# EAGLE library part CELLPHONE_ARDUINO_SERIAL_PROGRAM (library v0-cellphone)
FTDI connector footprints
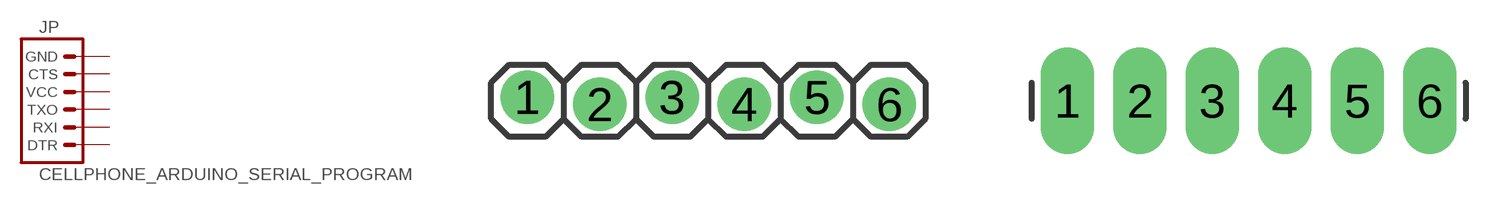
[diagram p5: symbol with the pads of CELLPHONE_1X06_LOCK; footprints CELLPHONE_1X06_LOCK, CELLPHONE_1X06_LONGPADS]

Designator prefix JP

## CELLPHONE_ARDUINO_SERIAL_PROGRAMLOCK  [CELLPHONE_1X06_LOCK]
1  DTR  pas
2  RXI  pas
3  TXO  pas
4  VCC  pas
5  CTS  pas
6  GND  pas

## CELLPHONE_ARDUINO_SERIAL_PROGRAMLONGPADS  [CELLPHONE_1X06_LONGPADS]
Pads as for CELLPHONE_1X06_LOCK

## CELLPHONE_ARDUINO_SERIAL_PROGRAMPTH  [CELLPHONE_1X06]
Pads as for CELLPHONE_1X06_LOCK

## CELLPHONE_ARDUINO_SERIAL_PROGRAMPTH-KIT  [CELLPHONE_1X06-KIT]
Pads as for CELLPHONE_1X06_LOCK

## CELLPHONE_ARDUINO_SERIAL_PROGRAMRA_LOCK  [CELLPHONE_MOLEX-1X6-RA_LOCK]
1  GND  pas
2  CTS  pas
3  VCC  pas
4  TXO  pas
5  RXI  pas
6  DTR  pas

## CELLPHONE_ARDUINO_SERIAL_PROGRAMSMD  [CELLPHONE_1X06-SMD]
Pads as for CELLPHONE_1X06_LOCK

## CELLPHONE_ARDUINO_SERIAL_PROGRAMSMD-NOHOLES  [CELLPHONE_1X06-SMD-NOHOLES]
Pads as for CELLPHONE_1X06_LOCK

## Footprint CELLPHONE_1X06_LOCK (pad centres in mm)
This footprint was designed to help hold the alignment of a through-hole component (i.e. 6-pin header) while soldering it into place. You may notice that each hole has been shifted either up or down by 0.005 of an inch from it's more standard position (which is a perfectly straight line). This slight alteration caused the pins (the squares in the middle) to touch the edges of the holes. Because they are alternating, it causes a "brace" to hold the component in place. 0.005 has proven to be the perfect amount of "off-center" position when using our standard breakaway headers. Although looks a little odd when you look at the bare footprint, once you have a header in there, the alteration is very hard to notice. Also, if you push a header all the way into place, it is covered up entirely on the bottom side. This idea of altering the position of holes to aid alignment will be further integrated into the Sparkfun Library for other footprints. It can help hold any component with 3 or more connection pins.
drill 1.016 pad 1.88: 1 0,0; 2 2.54,-0.254; 3 5.08,0; 4 7.62,-0.254; 5 10.16,0; 6 12.7,-0.254

## Footprint CELLPHONE_1X06_LONGPADS (pad centres in mm)
drill 1.118 pad 1.88 long: 1 0,0; 2 2.54,0; 3 5.08,0; 4 7.62,0; 5 10.16,0; 6 12.7,0

## Footprint CELLPHONE_1X06 (pad centres in mm)
drill 1.016 pad 1.88: 1 0,0; 2 2.54,0; 3 5.08,0; 4 7.62,0; 5 10.16,0; 6 12.7,0

## Footprint CELLPHONE_1X06-KIT (pad centres in mm)
1X06-KIT Warning: This is the KIT version of this package. This package has a smaller diameter top stop mask, which doesn't cover the diameter of the pad. This means only the bottom side of the pads' copper will be exposed. You'll only be able to solder to the bottom side.
drill 1.016 pad 1.88: 1 0,0; 2 2.54,0; 3 5.08,0; 4 7.62,0; 5 10.16,0; 6 12.7,0

## Footprint CELLPHONE_MOLEX-1X6-RA_LOCK (pad centres in mm)
drill 1.016 pad 1.88 square: 1 0,0.127
drill 1.016 pad 1.88: 2 2.54,-0.127; 3 5.08,0.127; 4 7.62,-0.127; 5 10.16,0.127; 6 12.7,-0.127

## Footprint CELLPHONE_1X06-SMD (pad centres in mm)
smd 1 x 3: 1 -6.35,5; 2 -3.81,5; 3 -1.27,5; 4 1.27,5; 5 3.81,5; 6 6.35,5
hole 1.4 at -5.08,0
hole 1.4 at 5.08,0

## Footprint CELLPHONE_1X06-SMD-NOHOLES (pad centres in mm)
smd 1 x 3: 1 -6.35,5; 2 -3.81,5; 3 -1.27,5; 4 1.27,5; 5 3.81,5; 6 6.35,5